# EAGLE library part JEELABS_HEADER (library ModernDevicebak2)
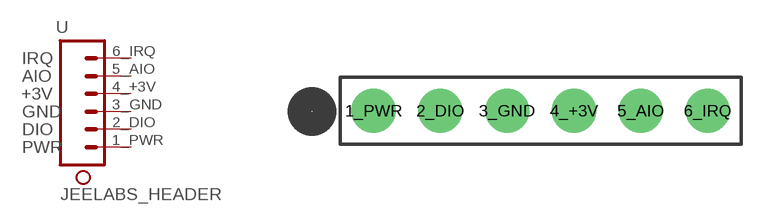
[diagram p27: symbol with the pads of JEELABSHEADER; footprint JEELABSHEADER]

Designator prefix -

## JEELABS_HEADER  [JEELABSHEADER]
1_PWR  1_PWR  pas
2_DIO  2_DIO  pas
3_GND  3_GND  pas
4_+3V  4_3V3  pas
5_AIO  5_AIO  pas
6_IRQ  6_IRQ  pas

## Footprint JEELABSHEADER (pad centres in mm)
drill 0.889 pad 1.676: 1_PWR -6.35,0
drill 0.9 pad 1.676: 2_DIO -3.81,0; 3_GND -1.27,0; 4_+3V 1.27,0; 5_AIO 3.81,0; 6_IRQ 6.35,0